# Altium footprint library LED.PcbLib: 11 footprints
Each footprint in its own frame and in the unit in brackets; x right, y up, seen from the top. Pads: shape width x height; smd on the part's side, far side on the other; paste and mask are expansions set on the pad; w line width, h text height; cw(c..) or ccw(c..) is an arc to the next point about the centre after c.
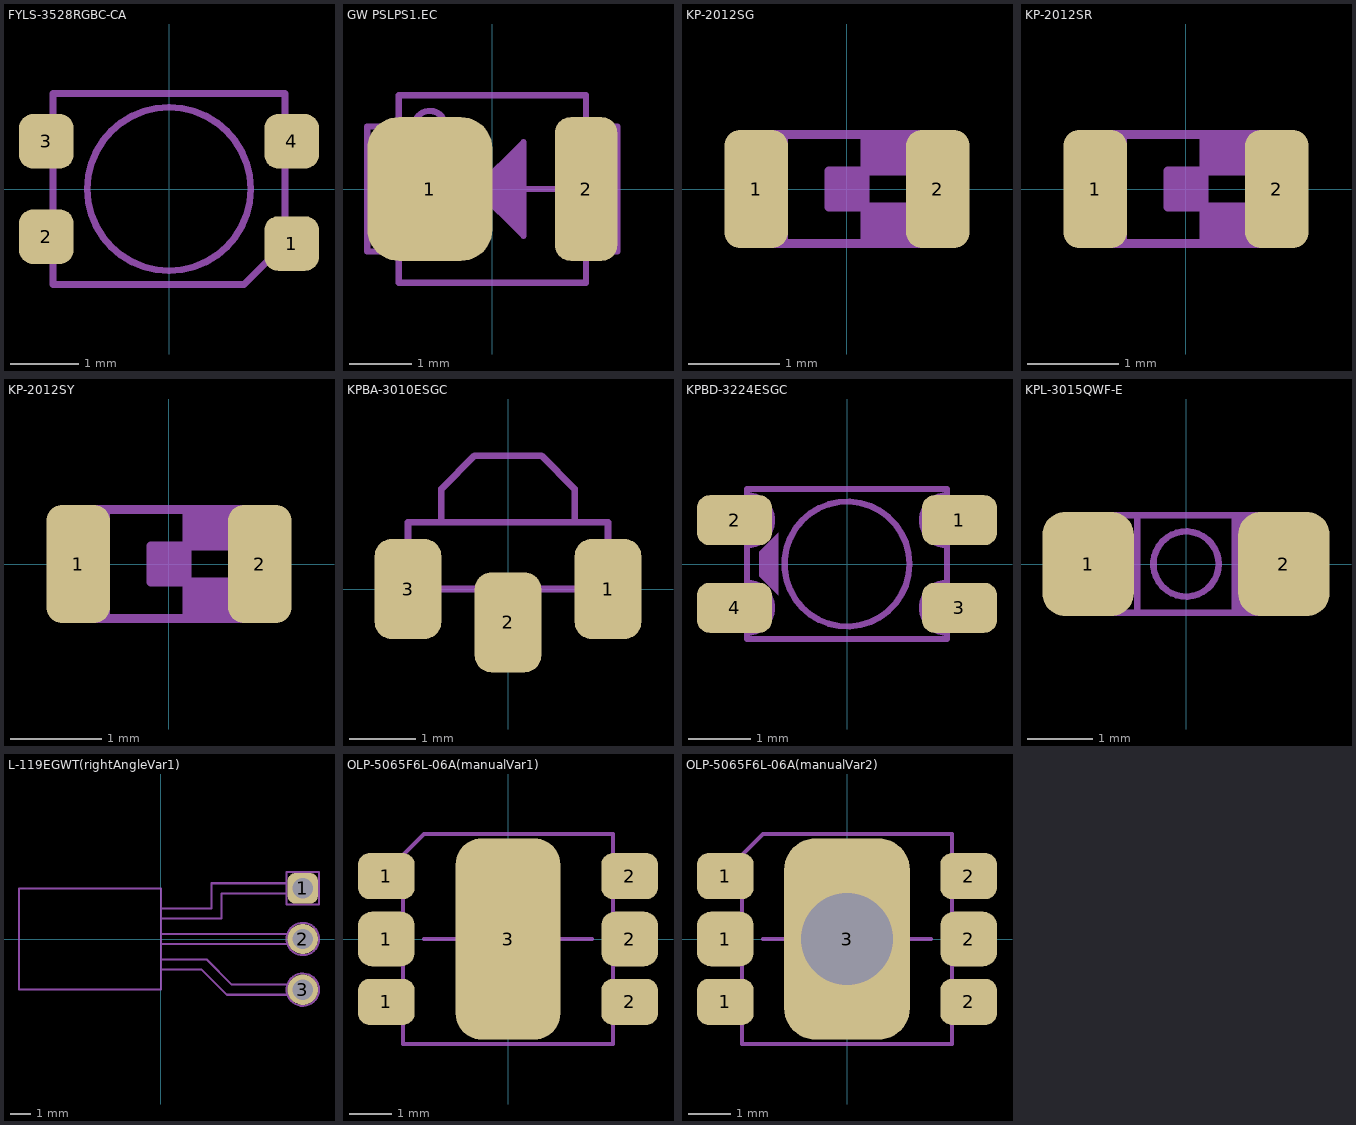
[diagram p0: the footprints below, top view; thin cyan lines are the x and y axes]

## FYLS-3528RGBC-CA [mm]
pads (4):
  rrect50% 0.8x0.8 smd: 1(1.8,-0.8) 2(-1.8,-0.7) 3(-1.8,0.7) 4(1.8,0.7)
Mechanical 1:
  circle w0.1: c0,0 r1.2
  lines w0.1: -1.7,-1.4 1.1,-1.4 1.7,-0.8 1.7,1.4 -1.7,1.4 -1.7,-1.4
3D body: height 0.6, standoff 0, extent 1.7,0.3 1.8,1.1
3D body: height 0.6, standoff 0, extent 1.7,-1.2 1.8,-0.4
3D body: height 0.6, standoff 0, extent -1.8,-1.1 -1.7,-0.3
3D body: height 0.6, standoff 0, extent -1.8,0.3 -1.7,1.1
3D body: height 2, standoff 1.9, extent -1.191,-1.198 1.2,1.198
3D body: height 1.9, standoff 1, extent -1.7,-1.4 1.7,1.4
3D body: height 1, standoff 0, extent -1.7,-1.4 1.7,1.4

## GW PSLPS1.EC [mm]
pads (2):
  rrect50% 2x2.3 smd: 1(-1,0)
  rrect50% 1x2.3 smd: 2(1.5,0)
Mechanical 1:
  circle w0.1: c-1,1 r0.25
  region: -0.25,0 0.5,0.75 0.5,-0.75
  lines w0.1: -1.5,-1 -1.75,-1 -2,-1 -2,1 -1.5,1 ; -0.75,0 -0.25,0 ; -0.25,-0.75 -0.25,0.75 ; 0.5,0 1,0 ; 1.5,-1 1.75,-1 2,-1 2,1 1.5,1 ; -0.25,0 -0.25,0 ; -0.25,0 0.5,0.75 0.5,-0.75 -0.25,0 ; -1.5,-1.5 -1.5,1.5 1.5,1.5 1.5,-1.5 -1.5,-1.5
Mechanical 13:
  text ".Designator" at -1,-0.25 h1
3D body: height 0.6, standoff 0.5, extent -1.238,0.848 -0.84,1.247
3D body: height 0.7, standoff 0.5, extent -1.29,-1.297 1.3,1.297
3D body: height 0.5, standoff 0, extent -1.5,-1.5 1.5,1.5

## KP-2012SG [mm] "SMD0805 LED"
height 1.1
pads (2):
  rrect50% 0.7x1.3 smd: 1(-1,0) 2(1,0)
Mechanical 1:
  region: -0.2,0.2 0.2,0.2 0.2,-0.2 -0.2,-0.2
  region: 0.2,-0.2 0.7,-0.2 0.7,-0.6 0.2,-0.6
  region: 0.2,0.6 0.7,0.6 0.7,0.2 0.2,0.2
  lines w0.1: -0.7,-0.6 -0.7,0.6 ; 0.2,-0.6 0.2,-0.2 ; 0.2,0.6 0.2,0.2 ; 0.7,-0.6 0.7,0.6 ; 0.7,-0.2 0.2,-0.2 ; 0.7,0.2 0.2,0.2 ; 0.2,-0.2 0.2,0.2 ; 0.2,-0.2 -0.2,-0.2 -0.2,0.2 0.2,0.2 ; -1,-0.6 -1,0.6 1,0.6 1,-0.6 -1,-0.6
Mechanical 13:
  text ".Designator" at -1,0 h1
3D body: height 0.6, standoff 0, extent -0.7,-0.65 0.7,0.65
3D body: height 0.4, standoff 0, extent -1.05,-0.65 -0.7,0.65
3D body: height 0.4, standoff 0, extent 0.7,-0.65 1.05,0.65

## KP-2012SR [mm] "SMD0805 LED"
height 1.1
pads (2):
  rrect50% 0.7x1.3 smd: 1(-1,0) 2(1,0)
Mechanical 1:
  region: 0.2,0.6 0.7,0.6 0.7,0.2 0.2,0.2
  region: 0.2,-0.2 0.7,-0.2 0.7,-0.6 0.2,-0.6
  region: -0.2,0.2 0.2,0.2 0.2,-0.2 -0.2,-0.2
  lines w0.1: -0.7,-0.6 -0.7,0.6 ; 0.2,-0.6 0.2,-0.2 ; 0.2,0.6 0.2,0.2 ; 0.7,-0.6 0.7,0.6 ; 0.7,-0.2 0.2,-0.2 ; 0.7,0.2 0.2,0.2 ; 0.2,-0.2 -0.2,-0.2 -0.2,0.2 0.2,0.2 ; 0.2,-0.2 0.2,0.2 ; -1,-0.6 1,-0.6 1,0.6 -1,0.6 -1,-0.6
Mechanical 13:
  text ".Designator" at -1,-0.25 h1
3D body: height 0.4, standoff 0, extent 0.7,-0.65 1.05,0.65
3D body: height 0.4, standoff 0, extent -1.05,-0.65 -0.7,0.65
3D body: height 0.6, standoff 0, extent -0.7,-0.65 0.7,0.65

## KP-2012SY [mm] "SMD0805 LED"
height 1.1
pads (2):
  rrect50% 0.7x1.3 smd: 1(-1,0) 2(1,0)
Mechanical 1:
  region: -0.2,0.2 0.2,0.2 0.2,-0.2 -0.2,-0.2
  region: 0.2,-0.2 0.7,-0.2 0.7,-0.6 0.2,-0.6
  region: 0.2,0.6 0.7,0.6 0.7,0.2 0.2,0.2
  lines w0.1: -0.7,-0.6 -0.7,0.6 ; 0.2,-0.6 0.2,-0.2 ; 0.2,0.6 0.2,0.2 ; 0.7,-0.6 0.7,0.6 ; 0.7,-0.2 0.2,-0.2 ; 0.7,0.2 0.2,0.2 ; 0.2,-0.2 0.2,0.2 ; 0.2,-0.2 -0.2,-0.2 -0.2,0.2 0.2,0.2 ; -1,-0.6 -1,0.6 1,0.6 1,-0.6 -1,-0.6
Mechanical 13:
  text ".Designator" at -1,-0.25 h1
3D body: height 0.6, standoff 0, extent -0.7,-0.65 0.7,0.65
3D body: height 0.4, standoff 0, extent -1.05,-0.65 -0.7,0.65
3D body: height 0.4, standoff 0, extent 0.7,-0.65 1.05,0.65

## KPBA-3010ESGC [mm]
pads (3):
  rrect50% 1x1.5 smd: 1(1.5,0) 2(0,-0.5) 3(-1.5,0)
Mechanical 1:
  lines w0.1: -1,1 -1,1.5 -0.5,2 0.5,2 1,1.5 1,1 ; -1.5,0 1.5,0 1.5,1 -1.5,1 -1.5,0
Mechanical 13:
  text ".Designator" at -1,1 h1
3D body: height 1, standoff 0, extent -1.5,0 1.5,1
3D body: height 1, standoff 0, extent -1,1 1,2

## KPBD-3224ESGC [mm]
pads (4):
  rrect50% 1.2x0.8 smd: 1(1.8,0.7) 2(-1.8,0.7) 3(1.8,-0.7) 4(-1.8,-0.7)
Mechanical 1:
  circle w0.1: c0,0 r1
  region: -1.4,0.2 -1.4,-0.2 -1.1,-0.5 -1.1,0.5
  lines w0.1: -1.6,-1.2 1.6,-1.2 1.6,-1.1 cw(c1.6,-0.7) 1.6,-0.3 1.6,0.3 cw(c1.6,0.7) 1.6,1.1 1.6,1.2 -1.6,1.2 -1.6,1.1 cw(c-1.6,0.7) -1.6,0.3 -1.6,-0.3 cw(c-1.6,-0.7) -1.6,-1.1 -1.6,-1.2
Mechanical 13:
  text ".Designator" at -1.5,-2 h1
3D body: height 0.5, standoff 0, extent -1.6,-1.2 1.6,1.2
3D body: height 1, standoff 0.5, extent -1.1,-1.2 1.1,1.2
3D body: height 2.4, standoff 1, extent -1,-1 0.992,0.996
3D body: height 0.6, standoff 0.5, extent -1.4,-0.5 -1.1,0.5

## KPL-3015QWF-E [mm]
pads (2):
  rrect50% 1.4x1.6 smd: 1(-1.5,0) 2(1.5,0)
Mechanical 1:
  circle w0.1: c0,0 r0.5
  region: 0.75,-0.75 0.75,-0.25 1.5,-0.25 1.5,-0.75
  region: 0.75,0.25 1.5,0.25 1.5,0.75 0.75,0.75
  lines w0.1: -0.75,-0.75 -0.75,0.75 ; 0.75,-0.75 0.75,0.75 ; -1.5,-0.75 -1.5,0.75 1.5,0.75 1.5,-0.75 -1.5,-0.75
Mechanical 13:
  text ".Designator" at -2,1 h1
Mechanical 14:
  text ".Comment" at -2,1 h1
3D body: height 1.5, standoff 1.4, extent -0.496,-0.499 0.5,0.499
3D body: height 0.5, standoff 0, extent 1.2,-0.4 1.5,0.4
3D body: height 0.5, standoff 0, extent -1.5,-0.4 -1.2,0.4
3D body: height 0.6, standoff 0.5, extent 1,-0.75 1.5,-0.5
3D body: height 1.4, standoff 0.5, extent -1,-0.75 1,0.75
3D body: height 0.5, standoff 0, extent -1.5,-0.75 1.5,0.75

## L-119EGWT(rightAngleVar1) [mm]
pads (3):
  rrect50% 1.5x1.5 hole 1: 1(7,2.5)
  round 1.5 hole 1: 2(7,0) 3(7,-2.5)
Mechanical 1:
  circle w0.1: c7,-2.5 r0.8
  circle w0.1: c7,0 r0.8
  lines w0.1: 0,-1.5 2,-1.5 3.25,-2.75 6.25,-2.75 ; 0,-1 2.25,-1 3.5,-2.25 6.25,-2.25 ; 0,-0.25 6.25,-0.25 ; 0,0.25 6.25,0.25 ; 0,1 3,1 3,2.25 6.2,2.25 ; 0,1.5 2.5,1.5 2.5,2.75 6.2,2.75 ; -7,-2.5 -7,2.5 0,2.5 0,-2.5 -7,-2.5 ; 6.2,1.7 6.2,3.3 7.8,3.3 7.8,1.7 6.2,1.7
Mechanical 4:
  circle w0.1: c7,0 r0.8
  circle w0.1: c7,-2.5 r0.8
  lines w0.1: 6.2,1.7 6.2,3.3 7.8,3.3 7.8,1.7 6.2,1.7
Mechanical 13:
  text ".Designator" at -6.5,-3.8 h1
Mechanical 14:
  text ".Comment" at -6,-3.8 h1
3D body: height 1.25, standoff -0.5, extent 6.75,-2.75 7.25,-2.25
3D body: height 1.25, standoff -0.5, extent 6.75,-0.25 7.25,0.25
3D body: height 1.25, standoff -0.5, extent 6.75,2.25 7.25,2.75
3D body: height 1.5, standoff 0.5, extent -3.5,-2 0,-1
3D body: height 1.5, standoff 0.5, extent -3.5,1 0,2
3D body: height 1.5, standoff 0.5, extent -3,-1 0,1
3D body: height 2, standoff 0, extent -7,-2.5 0,2.5
3D body: height 1.25, standoff 0.75, extent 0,1 7,2.75
3D body: height 1.25, standoff 0.75, extent 0,-2.75 7,-1
3D body: height 1.25, standoff 0.75, extent 0,-0.25 7,0.25

## OLP-5065F6L-06A(manualVar1) [mm]
pads (7):
  rrect50% 1.35x1.1 smd: 1(-2.9,-1.5) 1(-2.9,1.5) 2(2.9,-1.5) 2(2.9,1.5)
  rrect50% 1.35x1.3 smd: 1(-2.9,0) 2(2.9,0)
  rrect50% 2.5x4.8 smd: 3(0,0)
Mechanical 1:
  lines w0.1: -2.5,-1.9 -3.2,-1.9 -3.2,-1.1 -2.5,-1.1 ; -2.5,-0.5 -3.2,-0.5 -3.2,0.5 -2.5,0.5 ; -2.5,1.1 -3.2,1.1 -3.2,1.9 -2.5,1.9 ; -2,0 2,0 ; -0.75,-1.5 -0.75,1.5 ; 2.5,-1.9 3.2,-1.9 3.2,-1.1 2.5,-1.1 2.5,-0.5 3.2,-0.5 3.2,0.5 2.5,0.5 ; 2.5,1.1 3.2,1.1 3.2,1.9 2.5,1.9 ; -2.5,-2.5 2.5,-2.5 2.5,2.5 -2,2.5 -2.5,2 -2.5,-2.5 ; -0.75,0 0.75,1.5 0.75,-1.5 -0.75,0
Mechanical 13:
  text ".Designator" at -2.25,2.75 h1
Mechanical 14:
  text ".Comment" at -2.25,2.75 h1
3D body: height 0.5, standoff 0, extent 2.5,1.1 3.2,1.9
3D body: height 0.5, standoff 0, extent 2.5,-1.9 3.2,-1.1
3D body: height 0.5, standoff 0, extent -3.2,-1.9 -2.5,-1.1
3D body: height 0.5, standoff 0, extent -3.2,1.1 -2.5,1.9
3D body: height 0.5, standoff 0, extent 2.5,-0.5 3.2,0.5
3D body: height 0.5, standoff 0, extent -3.2,-0.5 -2.5,0.5
3D body: height 1.2, standoff 0, extent -2.5,-2.5 2.5,2.5
3D body: height 1.3, standoff 1, extent -2,-2.05 2,2.05
3D body: height 1, standoff 0, extent -2.5,-2.5 2.5,2.5

## OLP-5065F6L-06A(manualVar2) [mm]
pads (7):
  rrect50% 1.35x1.1 smd: 1(-2.9,-1.5) 1(-2.9,1.5) 2(2.9,-1.5) 2(2.9,1.5)
  rrect50% 1.35x1.3 smd: 1(-2.9,0) 2(2.9,0)
  rrect50% 3x4.8 hole 2.2: 3(0,0)
Mechanical 1:
  lines w0.1: -2.5,-1.9 -3.2,-1.9 -3.2,-1.1 -2.5,-1.1 ; -2.5,-0.5 -3.2,-0.5 -3.2,0.5 -2.5,0.5 ; -2.5,1.1 -3.2,1.1 -3.2,1.9 -2.5,1.9 ; -2,0 2,0 ; -0.75,-1.5 -0.75,1.5 ; 2.5,-1.9 3.2,-1.9 3.2,-1.1 2.5,-1.1 2.5,-0.5 3.2,-0.5 3.2,0.5 2.5,0.5 ; 2.5,1.1 3.2,1.1 3.2,1.9 2.5,1.9 ; -2.5,-2.5 -2.5,2 -2,2.5 2.5,2.5 2.5,-2.5 -2.5,-2.5 ; -0.75,0 0.75,-1.5 0.75,1.5 -0.75,0
Mechanical 13:
  text ".Designator" at -2.25,2.75 h1
Mechanical 14:
  text ".Comment" at -2.25,2.75 h1
3D body: height 1, standoff 0, extent -2.5,-2.5 2.5,2.5
3D body: height 1.3, standoff 1, extent -2,-2.05 2,2.05
3D body: height 1.2, standoff 0, extent -2.5,-2.5 2.5,2.5
3D body: height 0.5, standoff 0, extent -3.2,-0.5 -2.5,0.5
3D body: height 0.5, standoff 0, extent 2.5,-0.5 3.2,0.5
3D body: height 0.5, standoff 0, extent -3.2,1.1 -2.5,1.9
3D body: height 0.5, standoff 0, extent -3.2,-1.9 -2.5,-1.1
3D body: height 0.5, standoff 0, extent 2.5,-1.9 3.2,-1.1
3D body: height 0.5, standoff 0, extent 2.5,1.1 3.2,1.9